# Altium schematic symbol library SCH - MCU - ATMEGA - MICROCHIP AVR128DB32 QFN32.SchLib: 1 symbol
Pins are listed as number, name and electrical type; pins without a type are passive.

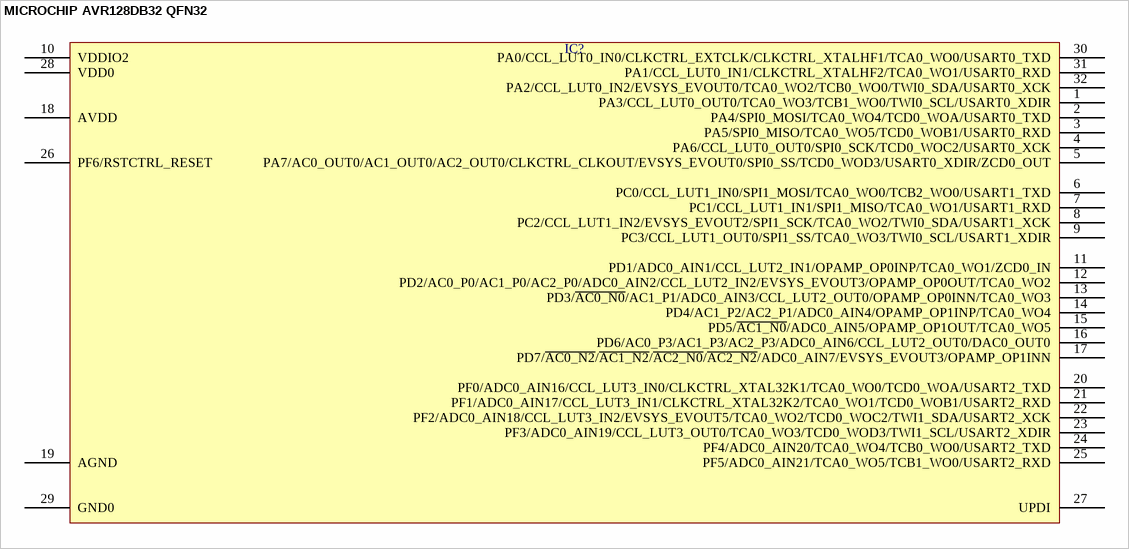
[diagram p0: symbol MICROCHIP AVR128DB32 QFN32]

## MICROCHIP AVR128DB32 QFN32
designator IC?  (value not drawn)
pins: 1 PA3/CCL_LUT0_OUT0/TCA0_WO3/TCB1_WO0/TWI0_SCL/USART0_XDIR, 2 PA4/SPI0_MOSI/TCA0_WO4/TCD0_WOA/USART0_TXD, 3 PA5/SPI0_MISO/TCA0_WO5/TCD0_WOB1/USART0_RXD, 4 PA6/CCL_LUT0_OUT0/SPI0_SCK/TCD0_WOC2/USART0_XCK, 5 PA7/AC0_OUT0/AC1_OUT0/AC2_OUT0/CLKCTRL_CLKOUT/EVSYS_EVOUT0/SPI0_SS/TCD0_WOD3/USART0_XDIR/ZCD0_OUT, 6 PC0/CCL_LUT1_IN0/SPI1_MOSI/TCA0_WO0/TCB2_WO0/USART1_TXD, 7 PC1/CCL_LUT1_IN1/SPI1_MISO/TCA0_WO1/USART1_RXD, 8 PC2/CCL_LUT1_IN2/EVSYS_EVOUT2/SPI1_SCK/TCA0_WO2/TWI0_SDA/USART1_XCK, 9 PC3/CCL_LUT1_OUT0/SPI1_SS/TCA0_WO3/TWI0_SCL/USART1_XDIR, 10 VDDIO2, 11 PD1/ADC0_AIN1/CCL_LUT2_IN1/OPAMP_OP0INP/TCA0_WO1/ZCD0_IN, 12 PD2/AC0_P0/AC1_P0/AC2_P0/ADC0_AIN2/CCL_LUT2_IN2/EVSYS_EVOUT3/OPAMP_OP0OUT/TCA0_WO2, 13 PD3/~{AC0_N0}/AC1_P1/ADC0_AIN3/CCL_LUT2_OUT0/OPAMP_OP0INN/TCA0_WO3, 14 PD4/AC1_P2/AC2_P1/ADC0_AIN4/OPAMP_OP1INP/TCA0_WO4, 15 PD5/~{AC1_N0}/ADC0_AIN5/OPAMP_OP1OUT/TCA0_WO5, 16 PD6/AC0_P3/AC1_P3/AC2_P3/ADC0_AIN6/CCL_LUT2_OUT0/DAC0_OUT0, 17 PD7/~{AC0_N2}/~{AC1_N2}/~{AC2_N0}/~{AC2_N2}/ADC0_AIN7/EVSYS_EVOUT3/OPAMP_OP1INN, 18 AVDD, 19 AGND, 20 PF0/ADC0_AIN16/CCL_LUT3_IN0/CLKCTRL_XTAL32K1/TCA0_WO0/TCD0_WOA/USART2_TXD, 21 PF1/ADC0_AIN17/CCL_LUT3_IN1/CLKCTRL_XTAL32K2/TCA0_WO1/TCD0_WOB1/USART2_RXD, 22 PF2/ADC0_AIN18/CCL_LUT3_IN2/EVSYS_EVOUT5/TCA0_WO2/TCD0_WOC2/TWI1_SDA/USART2_XCK, 23 PF3/ADC0_AIN19/CCL_LUT3_OUT0/TCA0_WO3/TCD0_WOD3/TWI1_SCL/USART2_XDIR, 24 PF4/ADC0_AIN20/TCA0_WO4/TCB0_WO0/USART2_TXD, 25 PF5/ADC0_AIN21/TCA0_WO5/TCB1_WO0/USART2_RXD, 26 PF6/RSTCTRL_RESET, 27 UPDI, 28 VDD0, 29 GND0, 30 PA0/CCL_LUT0_IN0/CLKCTRL_EXTCLK/CLKCTRL_XTALHF1/TCA0_WO0/USART0_TXD, 31 PA1/CCL_LUT0_IN1/CLKCTRL_XTALHF2/TCA0_WO1/USART0_RXD, 32 PA2/CCL_LUT0_IN2/EVSYS_EVOUT0/TCA0_WO2/TCB0_WO0/TWI0_SDA/USART0_XCK